# Altium schematic symbol library U.FL-R-SMT(10)-duplicate.SchLib: 1 symbol
Pins are listed as number, name and electrical type; pins without a type are passive.

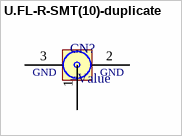
[diagram p0: symbol U.FL-R-SMT(10)-duplicate]

## U.FL-R-SMT(10)-duplicate
designator CN?
=Description
pins: 1, 2, 3
text: GND